# EAGLE library part APA102 (library LED)
APA102C 5050 RGB LED Adafruit DotStar Single LED Pixel Product Page: https://www.adafruit.com/products/2343 Datasheet <https://cdn-shop.adafruit.com/product-files/2343/APA102C.pdf>
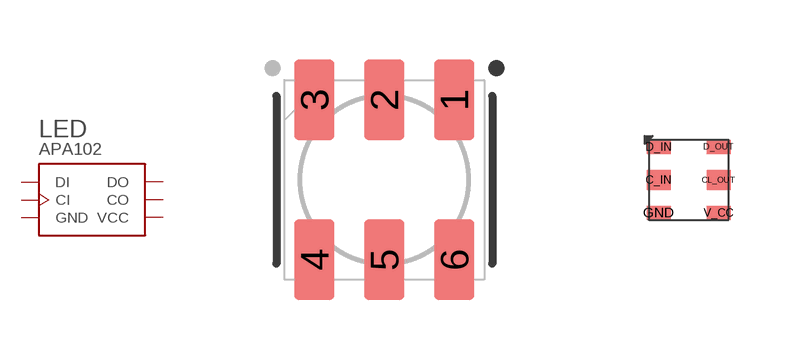
[diagram p1: symbol with the pads of APA102_5050; footprints APA102_5050, APA102_2020]

Designator prefix LED

## APA102C  [APA102_5050]
1  DI  in
2  CI  in
3  GND  pwr
4  VCC  pwr
5  CO  out
6  DO  out

## APA1022020  [APA102_2020]
C_IN  CI  in
CL_OUT  CO  out
D_IN  DI  in
D_OUT  DO  out
GND  GND  pwr
V_CC  VCC  pwr

## Footprint APA102_5050 (pad centres in mm)
APA102 RGB LED
smd 1 x 2: 1 1.75,2; 2 0,2; 3 -1.75,2; 4 -1.75,-2; 5 0,-2; 6 1.75,-2

## Footprint APA102_2020 (pad centres in mm)
smd 0.6 x 0.5: C_IN 0.25,1; CL_OUT 1.75,1
smd 0.6 x 0.35: D_IN 0.25,1.825; D_OUT 1.75,1.825; GND 0.25,0.175; V_CC 1.75,0.175